# Altium integrated library STD30N6LF6AG.IntLib: 1 symbol
Pins are listed as number, name and electrical type; pins without a type are passive.

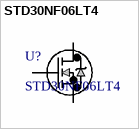
[diagram p0: symbol STD30NF06LT4]

## STD30NF06LT4
designator U?
MOSFET Automotive-grade N-channel 60 V, 19 mOhm typ., 24 A STripFET F6 Power MOSFET in a DPAK package; Vendor: STMicroelectronics; Built_By: EMA_UL_Team; C: Copyright (C) 2015 Accelerated Designs. All rights reserved; Manufacturer_Part_Number: STD30NF06LT4; RefDes: RefDes; Type: DEV; Value: Value
footprint DPAK
pins: 1 G, 2 D, 3 S